# Altium footprint library PISCES_200.PcbLib: 27 footprints (part 2 of 2)
Each footprint in its own frame and in the unit in brackets; x right, y up, seen from the top. Pads: shape width x height; smd on the part's side, far side on the other; paste and mask are expansions set on the pad; w line width, h text height; cw(c..) or ccw(c..) is an arc to the next point about the centre after c.
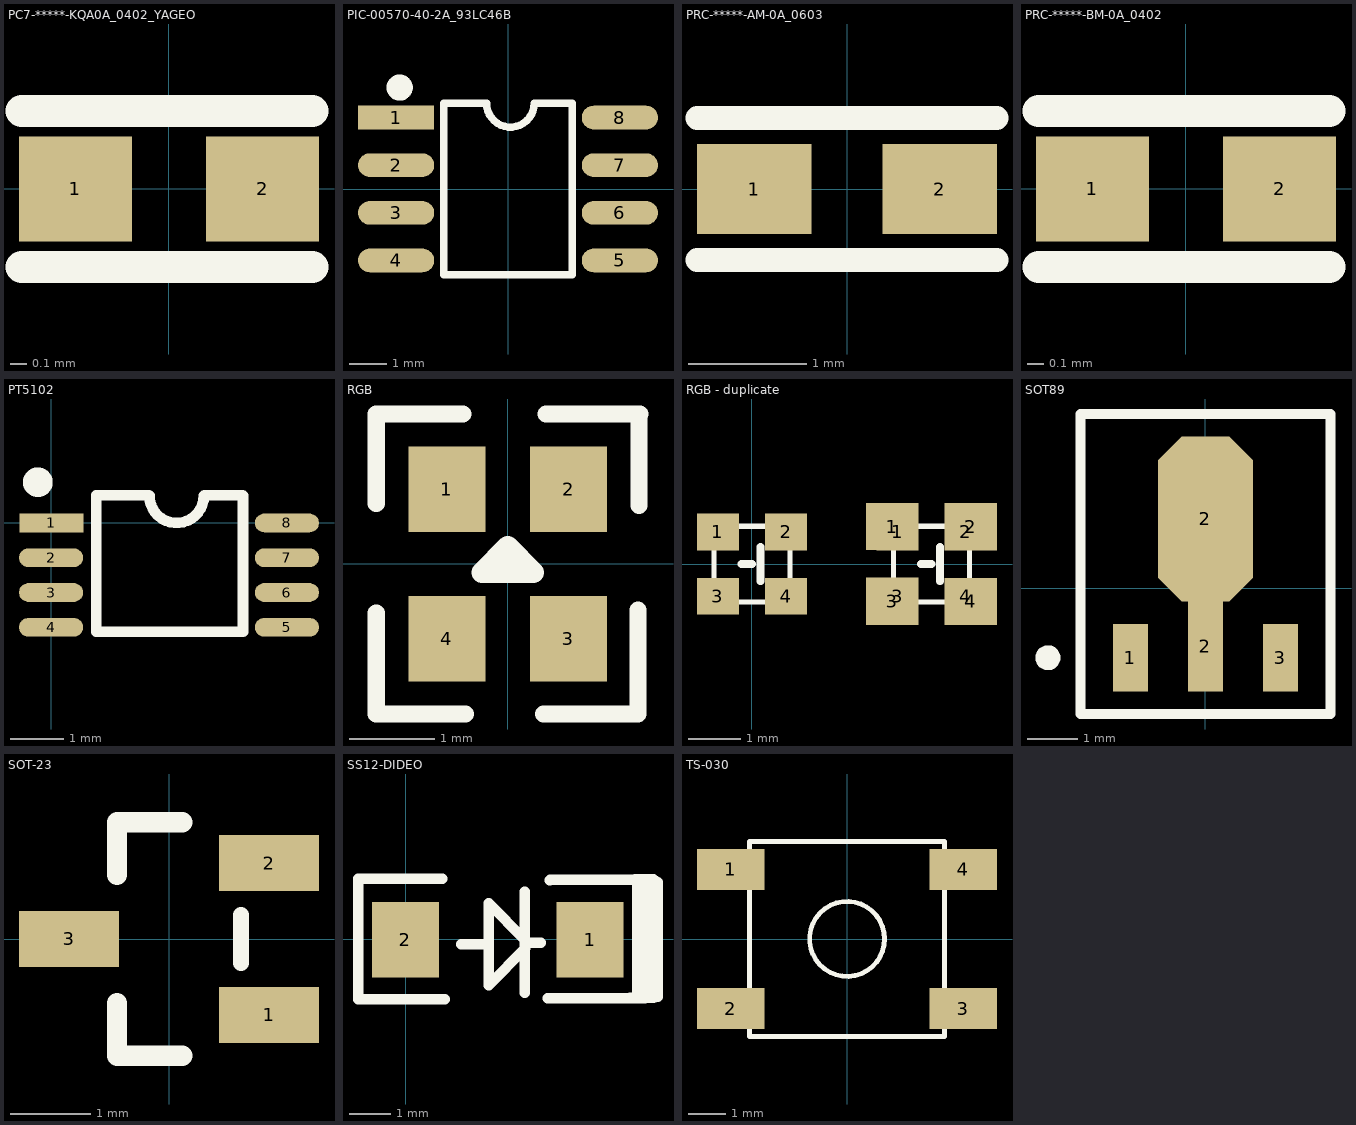
[diagram p1: the footprints below, top view; thin cyan lines are the x and y axes]

## PC7-*****-KQA0A_0402_YAGEO [mm] "0402"
height 30.4
pads (2):
  rect 0.7x0.65 smd: 1(-0.58,0) 2(0.58,0)
Top Overlay:
  lines w0.2: -0.912,-0.483 0.888,-0.483 ; -0.912,0.483 0.888,0.483

## PIC-00570-40-2A_93LC46B [mil] "SOIC-8"
height 68.9
pads (8):
  rect 80x25 smd: 1(-117.5,75)
  oval 80x25 smd: 2(-117.5,25) 3(-117.5,-25) 4(-117.5,-75) 5(117.5,-75) 6(117.5,-25) 7(117.5,25) 8(117.5,75)
Top Overlay:
  circle w17.72: c-113.76,106.5 r4.92
  lines w7.87: -67.5,-90 -67.5,90 -22.5,90 ccw(c2.5,90) 27.5,90 67.5,90 67.5,-90 -67.5,-90

## PRC-*****-AM-0A_0603 [mm] "0603"
height 0.45
pads (2):
  rect 0.966x0.762 smd: 1(-0.785,0) 2(0.785,0)
Top Overlay:
  lines w0.2: -1.265,-0.601 1.265,-0.601 ; -1.265,0.601 1.265,0.601

## PRC-*****-BM-0A_0402 [mm] "0402"
height 0.35
pads (2):
  rect 0.7x0.65 smd: 1(-0.58,0) 2(0.58,0)
Top Overlay:
  lines w0.2: -0.912,-0.483 0.888,-0.483 ; -0.912,0.483 0.888,0.483

## PT5102 [mm]
height 3.9
pads (8):
  rect 1.2x0.35 smd: 1(0,0)
  oval 1.2x0.35 smd: 2(-0.006,-0.65) 3(-0.006,-1.3) 4(-0.006,-1.95) 5(4.4,-1.95) 6(4.4,-1.3) 7(4.4,-0.65) 8(4.4,0)
Top Overlay:
  circle w0.3: c-0.254,0.762 r0.127
  lines w0.2: 2.848,0.508 cw(c2.34,0.508) 1.832,0.508 1.82,0.52 0.84,0.52 0.84,-2.032 2.026,-2.032 3.574,-2.032 ; 2.86,0.52 3.57,0.52 3.58,0.51 3.58,-2.032

## RGB [mm]
pads (4):
  rect 0.9x1 smd: 1(-0.712,0.872) 2(0.713,0.872) 3(0.711,-0.874) 4(-0.712,-0.874)
Top Overlay:
  lines w0.2: -1.538,-1.757 -1.538,-0.574 ; -1.538,0.706 -1.538,1.755 -0.526,1.755 ; -1.536,-1.757 -0.493,-1.757 ; 0.418,-1.757 1.526,-1.757 1.526,-0.541 ; 0.451,1.755 1.546,1.755 ; 1.539,0.686 1.539,1.755
  lines w0.25: -0.3,-0.1 0,0.2 0.3,-0.1 -0.3,-0.1

## RGB - duplicate [mm]
pads (12):
  rect 0.8x0.7 smd: 1(-0.65,0.615) 1(2.779,0.615) 2(0.65,0.615) 2(4.079,0.615) 3(-0.65,-0.615) 3(2.779,-0.615) 4(0.65,-0.615) 4(4.079,-0.615)
  rect 1x0.9 smd: 1(2.681,0.715) 2(4.178,0.715) 3(2.681,-0.71) 4(4.178,-0.71)
Top Overlay:
  lines w0.1: -0.725,-0.725 -0.725,0.725 0.725,0.725 0.725,-0.725 -0.725,-0.725 ; 2.704,-0.725 4.154,-0.725 4.154,0.725 2.704,0.725 2.704,-0.725
  lines w0.15: -0.201,0 0,0 ; 0.162,-0.328 0.162,0.328 ; 3.228,0 3.429,0 ; 3.591,-0.328 3.591,0.328

## SOT89 [mm] "SOT-89; Body 4.6 x 4.25 mm, inc. leads (LxW max)"
height 1.6
pads (4):
  rect 0.7x1.35 smd: 1(-1.5,-1.388) 3(1.5,-1.388)
  rect 0.7x1.8 smd: 2(0,-1.162)
  oct 1.9x3.3 smd: 2(0,1.388)
Top Overlay:
  circle w0.25: c-3.15,-1.388 r0.125
  lines w0.2: -2.5,-2.512 -2.5,3.487 2.5,3.487 2.5,-2.512 -2.5,-2.512

## SOT-23 [mm]
pads (3):
  rect 1.25x0.7 smd: 1(1.25,-0.95) 2(1.25,0.95) 3(-1.25,0)
Top Overlay:
  lines w0.2: 0.9,-0.3 0.9,0.3
  lines w0.254: -0.65,-0.8 -0.65,-1.46 0.165,-1.46 ; 0.165,1.46 -0.65,1.46 ; -0.65,0.8 -0.65,1.46 ; -0.65,0.8 -0.65,1.46 ; -0.65,0.8 -0.65,1.46

## SS12-DIDEO [mm]
height 30.4
pads (2):
  rect 1.6x1.8 smd: 1(4.41,-0.01) 2(-0.01,-0.01)
Top Overlay:
  lines w0.25: 0.88,1.44 -1.14,1.44 -1.13,1.42 -1.13,-1.42 -1.13,-1.43 0.93,-1.43 ; 1.33,-0.12 1.83,-0.12 ; 2.85,-1.28 2.85,1.14 ; 2.85,-0.09 2.85,-0.01 1.98,0.86 1.98,-1.1 2.86,-0.22 2.86,0 ; 2.96,-0.08 3.23,-0.08 ; 3.39,-1.41 5.52,-1.41 5.53,-1.4 5.53,1.43 5.52,1.42 3.45,1.42 3.44,1.41 ; 5.34,-1.41 5.71,-1.41 5.78,-1.37 5.78,1.42 5.74,1.43 5.48,1.43 ; 5.37,-1.4 5.92,-1.4 6.03,-1.37 6.03,1.36 5.92,1.43 5.65,1.43

## TS-030 [mm]
height 1.61
pads (4):
  rect 1.8x1.1 smd: 1(-3.099,1.854) 2(-3.099,-1.854) 3(3.099,-1.854) 4(3.099,1.854)
Top Overlay:
  circle w0.127: c0.002,0.002 r1
  lines w0.127: -2.598,-2.598 -2.598,0.002 -2.598,2.602 0.002,2.602 2.602,2.602 2.602,0.002 2.602,-2.598 0.002,-2.598 -2.598,-2.598